# Altium schematic symbol library foc_schlib.SchLib: 67 symbols
Pins are listed as number, name and electrical type; pins without a type are passive.

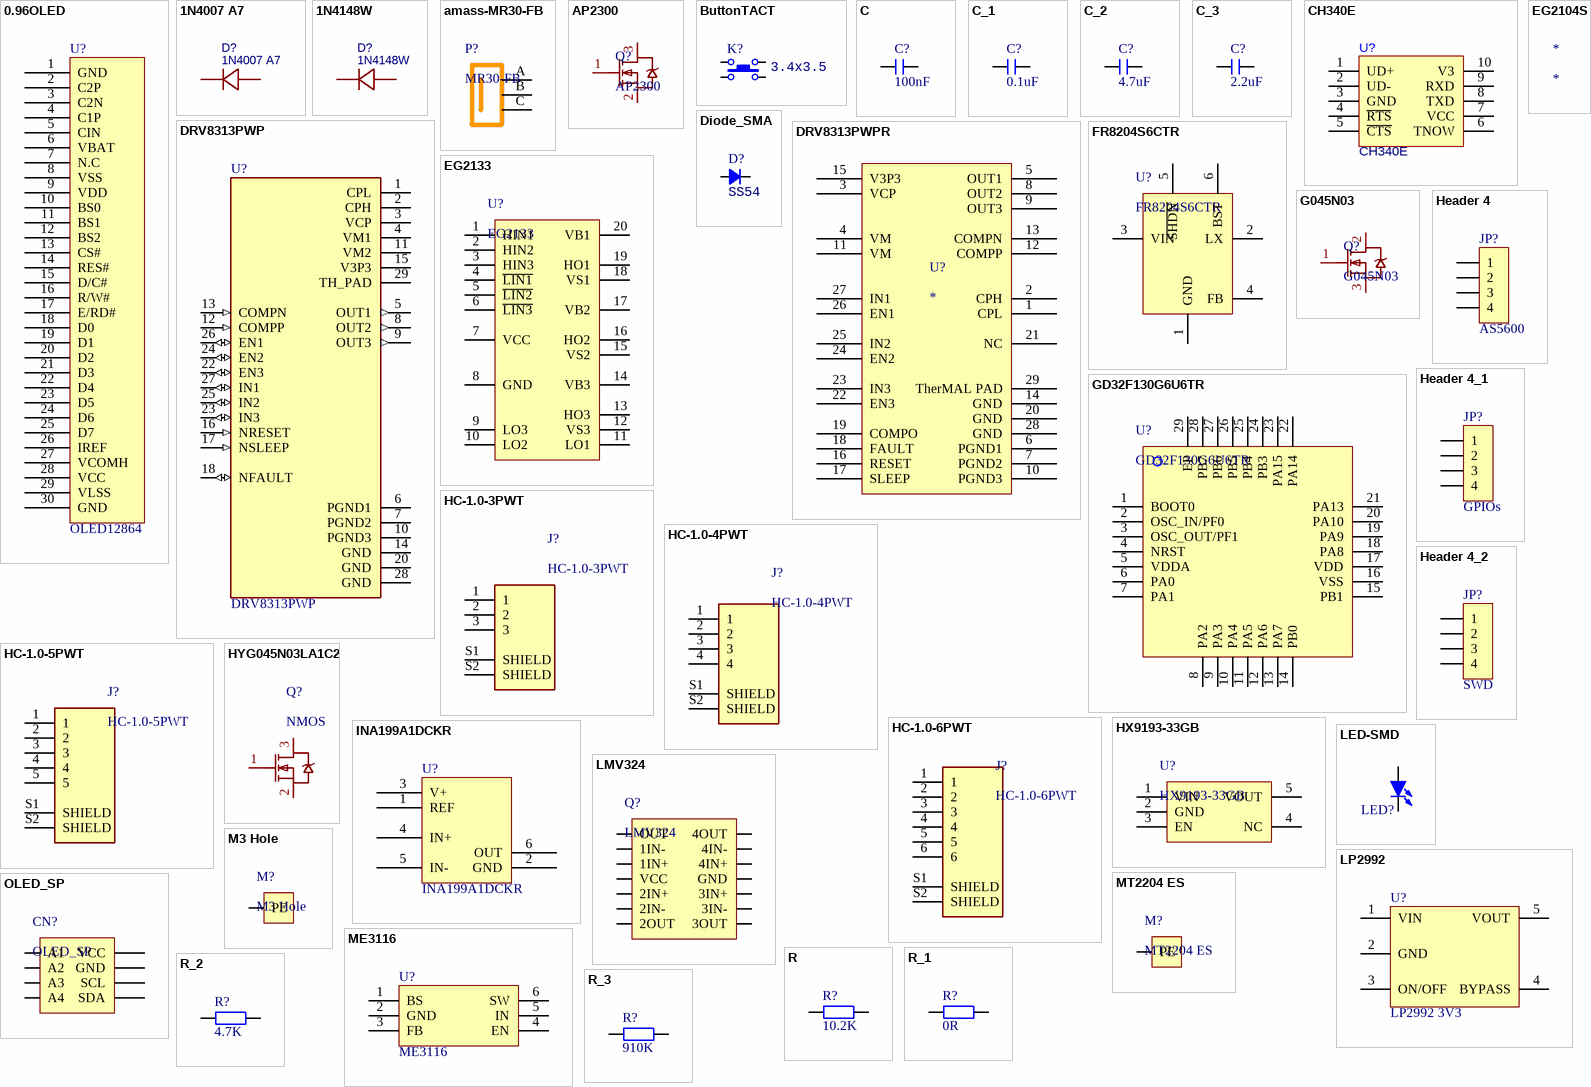
[diagram p0: symbols 0.96OLED to R_3]

## 0.96OLED
designator U?, comment OLED12864
footprint 0.96OLED
pins: 1 GND, 2 C2P, 3 C2N, 4 C1P, 5 CIN, 6 VBAT, 7 N.C, 8 VSS, 9 VDD, 10 BS0, 11 BS1, 12 BS2, 13 CS#, 14 RES#, 15 D/C#, 16 R/W#, 17 E/RD#, 18 D0, 19 D1, 20 D2, 21 D3, 22 D4, 23 D5, 24 D6, 25 D7, 26 IREF, 27 VCOMH, 28 VCC, 29 VLSS, 30 GND

## 1N4007 A7
designator D?
1kV 1A 1V; BOM_Manufacturer: MSKSEMI(美森科); Contributor: lcsc; BOM_Supplier: LCSC; BOM_Supplier Part: C2902912; BOM_Manufacturer Part: 1N4007 A7; BOM_JLCPCB Part Class: Extended Part; spicePre: D; spiceSymbolName: 1N4007 A7
footprint 1N4007(A7) (1kV 1A 1V)
pins: 1 K, 2 A

## 1N4148W
designator D?
100V 150mA 4ns; BOM_Manufacturer: MSKSEMI(美森科); BOM_Manufacturer Part: 1N4007 A7; Contributor: lcsc; BOM_Supplier: LCSC; BOM_Supplier Part: C2902912; BOM_JLCPCB Part Class: Extended Part; spicePre: D; spiceSymbolName: 1N4007 A7
footprint 1N4148W (SOD-123W, 100V 150mA 4ns)
pins: 1 K, 2 A

## amass-MR30-FB
designator P?, comment MR30-FB
amass MR30-FB
footprint amass-MR30PFB
pins: A, B, C

## AP2300
designator Q?
N-MOSFET, 20V, 5.2A, 1.25W, (35mΩ@2.5V,5.2A)
footprint AP2300 (SOT-23, N-MOSFET, 20V, 5.2A, 1.25W, (35mΩ@2.5V,5.2A))
pins: 1 G, 2 S, 3 D

## ButtonTACT
designator K?, comment value 3.4x3.5  (hidden comment: TACT 4P)
Button; type: TACT 4P
footprint ButtonTACT_3.5*3.55_90
pins: 1, 2, 3, 4

## C
designator C?, comment 100nF
贴片电容; 淘宝ID: 小糖豆的小窝窝; BOM名称: 贴片电容; 下单链接: https://item.taobao.com/item.htm?ft=t&id=613637044352
footprint C 0603_L (无极性贴片电容)
pins: 1, 2

## C_1
designator C?, comment 0.1uF
贴片电容; 淘宝ID: 小糖豆的小窝窝; BOM名称: 贴片电容; 下单链接: https://item.taobao.com/item.htm?ft=t&id=613637044352
footprint C 0603_L (无极性贴片电容)
pins: 1, 2

## C_2
designator C?, comment 4.7uF
贴片电容; 淘宝ID: 小糖豆的小窝窝; BOM名称: 贴片电容; 下单链接: https://item.taobao.com/item.htm?ft=t&id=613637044352
footprint C 0603_L (无极性贴片电容)
pins: 1, 2

## C_3
designator C?, comment 2.2uF
贴片电容; 淘宝ID: 小糖豆的小窝窝; BOM名称: 贴片电容; 下单链接: https://item.taobao.com/item.htm?ft=t&id=613637044352
footprint C 0603_L (无极性贴片电容)
footprint C0603_L (贴片MLCC电容)
pins: 1, 2

## CH340E
designator U?
footprint MSOP10_L (塑封体长3mm，宽3mm，脚距0.5)
pins: 1 UD+, 2 UD-, 3 GND, 4 ~{RTS}, 5 ~{CTS}, 6 TNOW, 7 VCC, 8 TXD, 9 RXD, 10 V3

## Diode_SMA
designator D?, comment SS54
Diode; Type: SMA; Value: SS54
footprint DO-214AC
pins: 1 A, 2 K

## DRV8313PWP
designator U?
65-V max, 3-A peak 3-phase motor driver 28-HTSSOP -40 to 125; MF: Texas Instruments; Availability: Good; SnapEDA_Link: https://www.snapeda.com/parts/DRV8313PWP/Texas%20Instruments/view-part/287728/?ref=snap; Price: None; MP: DRV8313PWP; Purchase-URL: https://pricing.snapeda.com/search/part/DRV8313PWP/?ref=eda; Package: HTSSOP-28 Texas Instruments; Value: *
footprint HTSSOP-28
pins: 1 CPL (power), 2 CPH (power), 3 VCP (power), 4 VM1 (power), 5 OUT1 (out), 6 PGND1 (power), 7 PGND2 (power), 8 OUT2 (out), 9 OUT3 (out), 10 PGND3 (power), 11 VM2 (power), 12 COMPP (in), 13 COMPN (in), 14 GND (power), 15 V3P3 (power), 16 NRESET (in), 17 NSLEEP (in), 18 NFAULT (io), 20 GND (power), 22 EN3 (io), 23 IN3 (io), 24 EN2 (io), 25 IN2 (io), 26 EN1 (io), 27 IN1 (io), 28 GND (power), 29 TH_PAD (power)

## DRV8313PWPR
designator U?
pins: 1 CPL, 2 CPH, 3 VCP, 4 VM, 5 OUT1, 6 PGND1, 7 PGND2, 8 OUT2, 9 OUT3, 10 PGND3, 11 VM, 12 COMPP, 13 COMPN, 14 GND, 15 V3P3, 16 RESET, 17 SLEEP, 18 FAULT, 19 COMPO, 20 GND, 21 NC, 22 EN3, 23 IN3, 24 EN2, 25 IN2, 26 EN1, 27 IN1, 28 GND, 29 TherMAL PAD

## EG2104S
designator *

## EG2133
designator U?
Three-phase independent half-bridge driver chip
footprint EG2133 (TSSOP-20, Three-phase independent half-bridge driver chip)
pins: 1 HIN1, 2 HIN2, 3 HIN3, 4 ~{LIN1}, 5 ~{LIN2}, 6 ~{LIN3}, 7 VCC, 8 GND, 9 LO3, 10 LO2, 11 LO1, 12 VS3, 13 HO3, 14 VB3, 15 VS2, 16 HO2, 17 VB2, 18 VS1, 19 HO1, 20 VB1

## FR8204S6CTR
designator U?
DC/DC Buck
footprint FR8204S6CTR (SOT-23-6, DC/DC Buck)
pins: 1 GND, 2 LX, 3 VIN, 4 FB, 5 ~{SHDN}, 6 BST

## G045N03
designator Q?
N-MOSFET, 30V, 80A, 57W, (3.8mΩ@10V,20A)
footprint HYG045N03LA1D (NMOS 30V 80A)
pins: 1 G, 2 D, 3 S

## GD32F130G6U6TR
designator U?
ARM Cortex-M3 RISC MCU, GD32F130Gx QFN28
footprint GD32F130G6U6TR (QFN 28 pin,s ARM Cortex-M3 RISC MCU)
pins: 1 BOOT0, 2 OSC_IN/PF0, 3 OSC_OUT/PF1, 4 NRST, 5 VDDA, 6 PA0, 7 PA1, 8 PA2, 9 PA3, 10 PA4, 11 PA5, 12 PA6, 13 PA7, 14 PB0, 15 PB1, 16 VSS, 17 VDD, 18 PA8, 19 PA9, 20 PA10, 21 PA13, 22 PA14, 23 PA15, 24 PB3, 25 PB4, 26 PB5, 27 PB6, 28 PB7, 29 EP

## HC-1.0-3PWT
designator J?
Connector Header Surface Mount, Right Angle 3 position 0.039 (1.00mm); MF: JST Sales; MP: SM05B-SRSS-TB(LF)(SN); Price: None; Value: *; Availability: In Stock; Check_prices: https://www.snapeda.com/parts/SM05B-SRSS-TB(LF)(SN)/JST+Sales+America+Inc./view-part/?ref=eda; SnapEDA_Link: https://www.snapeda.com/parts/SM05B-SRSS-TB(LF)(SN)/JST+Sales+America+Inc./view-part/?ref=snap; Package: None
footprint HC-1.0-3PWT (HC-1.0-3PWT SMD,P=1mm)
pins: 1, 2, 3, S1 SHIELD, S2 SHIELD

## HC-1.0-4PWT
designator J?
Connector Header Surface Mount, Right Angle 4 position 0.039 (1.00mm); MF: JST Sales; MP: SM05B-SRSS-TB(LF)(SN); Price: None; Value: *; Availability: In Stock; Check_prices: https://www.snapeda.com/parts/SM05B-SRSS-TB(LF)(SN)/JST+Sales+America+Inc./view-part/?ref=eda; SnapEDA_Link: https://www.snapeda.com/parts/SM05B-SRSS-TB(LF)(SN)/JST+Sales+America+Inc./view-part/?ref=snap; Package: None
footprint HC-1.0-4PWT (HC-1.0-4PWT SMD,P=1mm)
pins: 1, 2, 3, 4, S1 SHIELD, S2 SHIELD

## HC-1.0-5PWT
designator J?
Connector Header Surface Mount, Right Angle 5 position 0.039 (1.00mm); MF: JST Sales; MP: SM05B-SRSS-TB(LF)(SN); Price: None; Value: *; Availability: In Stock; Check_prices: https://www.snapeda.com/parts/SM05B-SRSS-TB(LF)(SN)/JST+Sales+America+Inc./view-part/?ref=eda; SnapEDA_Link: https://www.snapeda.com/parts/SM05B-SRSS-TB(LF)(SN)/JST+Sales+America+Inc./view-part/?ref=snap; Package: None
footprint HC-1.0-5PWT (HC-1.0-5PWT SMD,P=1mm)
pins: 1, 2, 3, 4, 5, S1 SHIELD, S2 SHIELD

## HC-1.0-6PWT
designator J?
Connector Header Surface Mount, Right Angle 6 position 0.039 (1.00mm); MF: JST Sales; MP: SM05B-SRSS-TB(LF)(SN); Price: None; Value: *; Availability: In Stock; Check_prices: https://www.snapeda.com/parts/SM05B-SRSS-TB(LF)(SN)/JST+Sales+America+Inc./view-part/?ref=eda; SnapEDA_Link: https://www.snapeda.com/parts/SM05B-SRSS-TB(LF)(SN)/JST+Sales+America+Inc./view-part/?ref=snap; Package: None
footprint HC-1.0-6PWT (HC-1.0-6PWT SMD,P=1mm)
pins: 1, 2, 3, 4, 5, 6, S1 SHIELD, S2 SHIELD

## Header 4
designator JP?, comment AS5600
4P连接器; 联系卖家 免费查找封装: 唯一出售店铺网址https://shop463601444.taobao.com; 联系卖家 免费技术支持: 封装库来自淘宝卖家ID：黄晶宝石; BOM名称: 4P连接器
footprint SH1.0-WT-4P (SH1.0连接器-卧贴-4P          来自淘宝卖家ID：黄晶宝石)
pins: 1, 2, 3, 4

## Header 4_1
designator JP?, comment GPIOs
4P连接器; 联系卖家 免费查找封装: 唯一出售店铺网址https://shop463601444.taobao.com; 联系卖家 免费技术支持: 封装库来自淘宝卖家ID：黄晶宝石; BOM名称: 4P连接器
footprint SH1.0-WT-4P (SH1.0连接器-卧贴-4P          来自淘宝卖家ID：黄晶宝石)
pins: 1, 2, 3, 4

## Header 4_2
designator JP?, comment SWD
4P连接器; 联系卖家 免费查找封装: 唯一出售店铺网址https://shop463601444.taobao.com; 联系卖家 免费技术支持: 封装库来自淘宝卖家ID：黄晶宝石; BOM名称: 4P连接器
footprint SH1.0-WT-4P (SH1.0连接器-卧贴-4P          来自淘宝卖家ID：黄晶宝石)
pins: 1, 2, 3, 4

## HX9193-33GB
designator U?
Vin=6V, Vout=3.3V, 600mA, 1kHz
footprint HX9193-33GB (SOT-23-5, Vin=6V, Vout=3.3V, 600mA, 1kHz)
pins: 1 VIN, 2 GND, 3 EN, 4 NC, 5 VOUT

## HYG045N03LA1C2
designator Q?, comment NMOS
30V, 78A, NMOS
footprint HYG045N03LA1C2 (NMOS)
pins: 1 G, 2 S, 3 D

## INA199A1DCKR
designator U?
Current-Shunt Monitor
footprint SOT363
pins: 1 REF, 2 GND, 3 V+, 4 IN+, 5 IN-, 6 OUT

## LED-SMD
designator LED?
贴片LED; 版权归属: 源创客; BOM名称: 贴片LED; 学习资源: www.ooocke.com
footprint LED0603_B (蓝色0603LED)
pins: 1 A, 2 K

## LMV324
designator Q?
LMV3xx Low-Voltage Rail-to-Rail Output Operational Amplifier
footprint LMV324IPWR (TSSOP-14 Operational Amplifier)
pins: 1 OUT, 2 1IN-, 3 1IN+, 4 VCC, 5 2IN+, 6 2IN-, 7 2OUT, 8 3OUT, 9 3IN-, 10 3IN+, 11 GND, 12 4IN+, 13 4IN-, 14 4OUT

## LP2992
designator U?, comment LP2992 3V3
LDO
footprint SOT23-5 (SOT23, 5-Leads, Body 2.9x1.6mm, Pitch 0.95mm, IPC Medium Density                联系卖家 免费查找封装)
pins: 1 VIN, 2 GND, 3 ON/OFF, 4 BYPASS, 5 VOUT

## M3 Hole
designator M?
footprint M3 Hole
pins: 1 PE

## ME3116
designator U?
DC-DC
footprint SOT23-6 (SOT-23, 6-Leads, Body 2.90x1.60mm, Pitch 0.95mm, IPC High Density)
pins: 1 BS, 2 GND, 3 FB, 4 EN, 5 IN, 6 SW

## MT2204 ES
designator M?
footprint MT2204 ES (MT2204 encoder support)
pins: 1 PE

## OLED_SP
designator CN?
OLED support M3 holes
footprint 0.96 OLED 4p
pins: 1 VCC, 2 GND, 3 SCL, 4 SDA, A1, A2, A3, A4

## R
designator R?, comment 10.2K
贴片电阻; 淘宝ID: 小糖豆的小窝窝; BOM名称: 贴片电阻; 下单链接: https://item.taobao.com/item.htm?ft=t&id=613637044352
footprint R 0603_L (1/10W贴片电阻 https://item.taobao.com/item.htm?ft=t&id=613637044352)
pins: 1, 2

## R_1
designator R?, comment 0R
贴片电阻; 淘宝ID: 小糖豆的小窝窝; BOM名称: 贴片电阻; 下单链接: https://item.taobao.com/item.htm?ft=t&id=613637044352
footprint R 0603_L (1/10W贴片电阻 https://item.taobao.com/item.htm?ft=t&id=613637044352)
pins: 1, 2

## R_2
designator R?, comment 4.7K
贴片电阻; 淘宝ID: 小糖豆的小窝窝; BOM名称: 贴片电阻; 下单链接: https://item.taobao.com/item.htm?ft=t&id=613637044352
footprint R 0603_L (1/10W贴片电阻 https://item.taobao.com/item.htm?ft=t&id=613637044352)
pins: 1, 2

## R_3
designator R?, comment 910K
贴片电阻; 淘宝ID: 小糖豆的小窝窝; BOM名称: 贴片电阻; 下单链接: https://item.taobao.com/item.htm?ft=t&id=613637044352
footprint R 0603_L (1/10W贴片电阻 https://item.taobao.com/item.htm?ft=t&id=613637044352)
pins: 1, 2

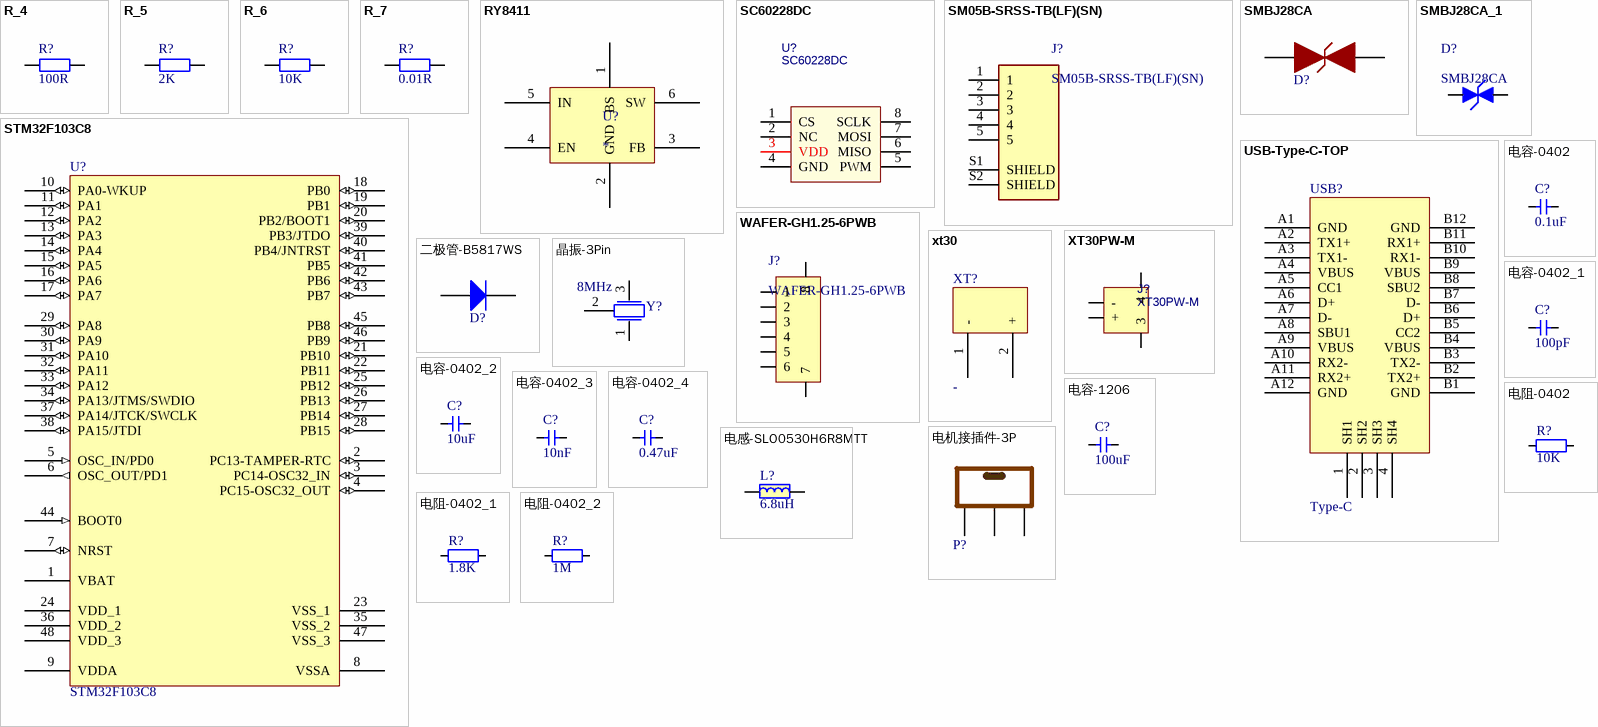
[diagram p1: symbols R_4 to 电阻-0402_2]

## R_4
designator R?, comment 100R
贴片电阻; 淘宝ID: 小糖豆的小窝窝; BOM名称: 贴片电阻; 下单链接: https://item.taobao.com/item.htm?ft=t&id=613637044352
footprint R 0603_L (1/10W贴片电阻 https://item.taobao.com/item.htm?ft=t&id=613637044352)
pins: 1, 2

## R_5
designator R?, comment 2K
贴片电阻; 淘宝ID: 小糖豆的小窝窝; BOM名称: 贴片电阻; 下单链接: https://item.taobao.com/item.htm?ft=t&id=613637044352
footprint R 0603_L (1/10W贴片电阻 https://item.taobao.com/item.htm?ft=t&id=613637044352)
pins: 1, 2

## R_6
designator R?, comment 10K
贴片电阻; 淘宝ID: 小糖豆的小窝窝; BOM名称: 贴片电阻; 下单链接: https://item.taobao.com/item.htm?ft=t&id=613637044352
footprint R 0603_L (1/10W贴片电阻 https://item.taobao.com/item.htm?ft=t&id=613637044352)
pins: 1, 2

## R_7
designator R?, comment 0.01R
贴片电阻; 淘宝ID: 小糖豆的小窝窝; BOM名称: 贴片电阻; 下单链接: https://item.taobao.com/item.htm?ft=t&id=613637044352
footprint R0805_L (1/8W贴片电阻)
pins: 1, 2

## RY8411
designator U?
pins: 1 BS, 2 GND, 3 FB, 4 EN, 5 IN, 6 SW

## SC60228DC
designator U?
12-Bit magnetically encoded angle sensor, SOP-8; BOM_Manufacturer: Semiment; Contributor: LCSC; BOM_Supplier: LCSC; BOM_Supplier Part: C496752; BOM_Manufacturer Part: SC60228DC; BOM_JLCPCB Part Class: Extended Part; spicePre: U; spiceSymbolName: SC60228DC
footprint SC60228DC (SOP-8, 12-Bit magnetically encoded angle sensor)
pins: 1 CS, 2 NC, 3 VDD, 4 GND, 5 PWM, 6 MISO, 7 MOSI, 8 SCLK

## SM05B-SRSS-TB(LF)(SN)
designator J?
Connector Header Surface Mount, Right Angle 5 position 0.039 (1.00mm); MF: JST Sales; Price: None; Value: *; Availability: In Stock; Check_prices: https://www.snapeda.com/parts/SM05B-SRSS-TB(LF)(SN)/JST+Sales+America+Inc./view-part/?ref=eda; SnapEDA_Link: https://www.snapeda.com/parts/SM05B-SRSS-TB(LF)(SN)/JST+Sales+America+Inc./view-part/?ref=snap; MP: SM05B-SRSS-TB(LF)(SN); Package: None
footprint JST_SM05B-SRSS-TB(LF)(SN)
pins: 1, 2, 3, 4, 5, S1 SHIELD, S2 SHIELD

## SMBJ28CA
designator D?  (value not drawn)
footprint SMBJ-CA_MFG
pins: 1, 2

## SMBJ28CA_1
designator D?, comment SMBJ28CA
TVS
footprint SMBJ28CA (Molded Diode, 2-Leads, Body 4.31x3.62mm, IPC Low Density)
pins: 1, 2

## STM32F103C8
designator U?
Flaah:64/RAM:20/IO:36; BOM名称: 32位STM单片机; 版权归属: 源创客; 学习资源: www.ooocke.com
footprint LQFP48 7X7_L (48脚，体宽7x7mm，脚距0.5mm https://item.taobao.com/item.htm?ft=t&id=613637044352)
pins: 1 VBAT (power), 2 PC13-TAMPER-RTC (io), 3 PC14-OSC32_IN (io), 4 PC15-OSC32_OUT (io), 5 OSC_IN/PD0 (in), 6 OSC_OUT/PD1 (out), 7 NRST (io), 8 VSSA (power), 9 VDDA (power), 10 PA0-WKUP (io), 11 PA1 (io), 12 PA2 (io), 13 PA3 (io), 14 PA4 (io), 15 PA5 (io), 16 PA6 (io), 17 PA7 (io), 18 PB0 (io), 19 PB1 (io), 20 PB2/BOOT1 (io), 21 PB10 (io), 22 PB11 (io), 23 VSS_1 (power), 24 VDD_1 (power), 25 PB12 (io), 26 PB13 (io), 27 PB14 (io), 28 PB15 (io), 29 PA8 (io), 30 PA9 (io), 31 PA10 (io), 32 PA11 (io), 33 PA12 (io), 34 PA13/JTMS/SWDIO (io), 35 VSS_2 (power), 36 VDD_2 (power), 37 PA14/JTCK/SWCLK (io), 38 PA15/JTDI (io), 39 PB3/JTDO (io), 40 PB4/JNTRST (io), 41 PB5 (io), 42 PB6 (io), 43 PB7 (io), 44 BOOT0 (in), 45 PB8 (io), 46 PB9 (io), 47 VSS_3 (power), 48 VDD_3 (power)

## USB-Type-C-TOP
designator USB?, comment Type-C
footprint Type-C-TOP
pins: 1 SH1, 2 SH2, 3 SH3, 4 SH4, A1 GND, A2 TX1+, A3 TX1-, A4 VBUS, A5 CC1, A6 D+, A7 D-, A8 SBU1, A9 VBUS, A10 RX2-, A11 RX2+, A12 GND, B1 GND, B2 TX2+, B3 TX2-, B4 VBUS, B5 CC2, B6 D+, B7 D-, B8 SBU2, B9 VBUS, B10 RX1-, B11 RX1+, B12 GND

## WAFER-GH1.25-6PWB
designator J?
footprint WAFER-GH1.25-6PWB
pins: 1, 2, 3, 4, 5, 6, 7, 8

## xt30
designator XT?, comment -
footprint XT30PW-M
pins: 1 -, 2 +

## XT30PW-M
designator J?
BOM_Manufacturer: Changzhou Amass Elec; Contributor: LCSC; BOM_Supplier: LCSC; BOM_Supplier Part: C431092; BOM_Manufacturer Part: XT30PW-M; BOM_JLCPCB Part Class: Extended Part; spicePre: C; spiceSymbolName: XT30PW-M
footprint XT30PW-M
pins: 1 -, 2 +, 3, 4

## 二极管-B5817WS
designator D?, comment 二极管-B5819WS  (value not drawn)
40V
footprint SOD-323 (1.8x1.3X0.9mm（长宽高，不包括引脚）)
pins: 1 A, 2 K

## 晶振-3Pin
designator Y?, comment 8MHz
村田贴片
footprint 晶振-3P (贴片晶振)
pins: 1, 2, 3

## 电容-0402
designator C?, comment 0.1uF
Capacitor; Value: 0.1u
footprint C0603_L (贴片MLCC电容)
pins: 1, 2

## 电容-0402_1
designator C?, comment 100pF
Capacitor; Value: 0.1u
footprint C0603_L (贴片MLCC电容)
pins: 1, 2

## 电容-0402_2
designator C?, comment 10uF
Capacitor; Value: 0.1u
footprint C0603_L (贴片MLCC电容)
pins: 1, 2

## 电容-0402_3
designator C?, comment 10nF
Capacitor; Value: 0.1u
footprint C0603_L (贴片MLCC电容)
pins: 1, 2

## 电容-0402_4
designator C?, comment 0.47uF
Capacitor; Value: 0.1u
footprint C0603_L (贴片MLCC电容)
pins: 1, 2

## 电容-1206
designator C?, comment 100uF
Capacitor; Value: 0.1u
footprint C1206_L (贴片MLCC电容)
pins: 1, 2

## 电感-SLO0530H6R8MTT
designator L?, comment 6.8uH
IND-SMD L5.4-W5.2
footprint IND-SMD_L5.4-W5.2_SLO0530H6R8MTT
pins: 1, 2

## 电机接插件-3P
designator P?  (value not drawn)
AMASS MR30
footprint AMASS-MR30-M
pins: 1, 2, 3

## 电阻-0402
designator R?, comment 10K
Resistor; Value: 22R
footprint R0603_L (1/10W贴片电阻)
pins: 1, 2

## 电阻-0402_1
designator R?, comment 1.8K
Resistor; Value: 22R
footprint R0603_L (1/10W贴片电阻)
pins: 1, 2

## 电阻-0402_2
designator R?, comment 1M
Resistor; Value: 22R
footprint R0603_L (1/10W贴片电阻)
pins: 1, 2